# EAGLE library part ATMEGA328P (library IC_Embedded)
8-bit AVR Microcontroller with 32K Bytes In-System Programmable Flash Datasheet <http://ww1.microchip.com/downloads/en/DeviceDoc/Atmel-7810-Automotive-Microcontrollers-ATmega328P_Datasheet.pdf>
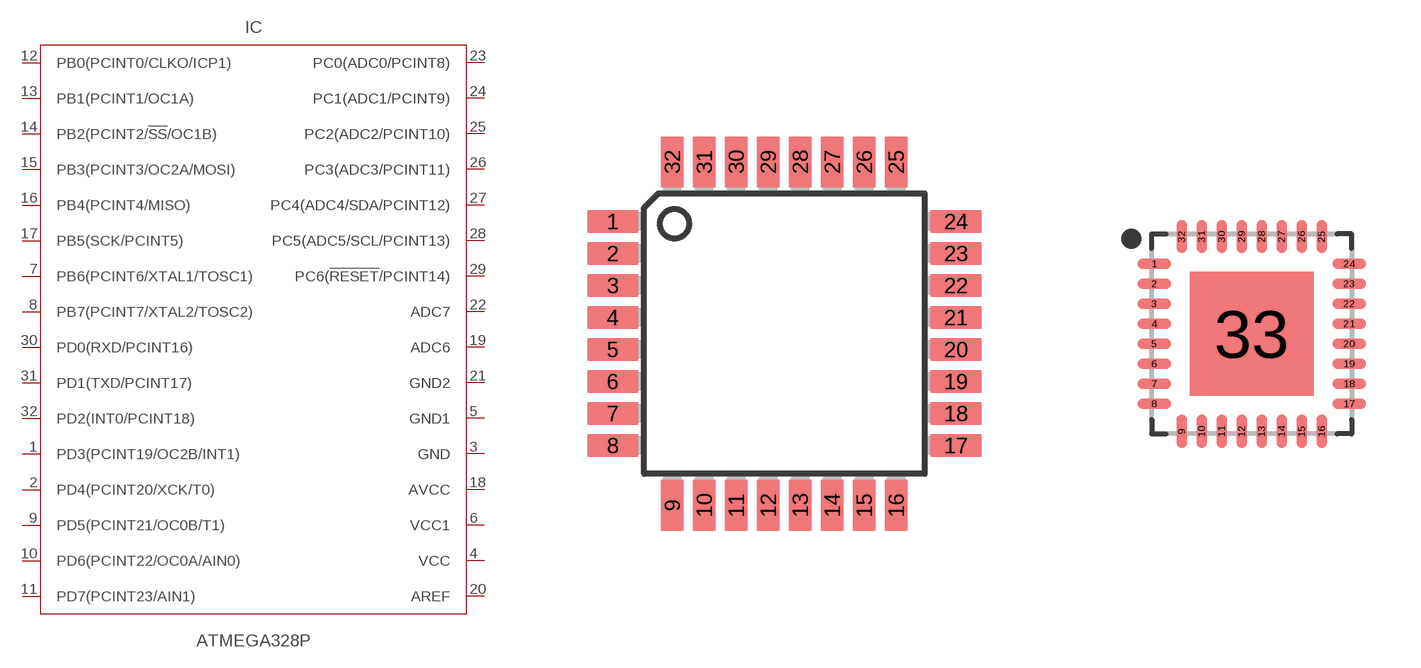
[diagram p11: symbol with the pads of TQFP32-08; footprints TQFP32-08, QFN50P500X500X90-33T310N]

Designator prefix IC

## ATMEGA328P_TQFP (CATEGORY: IC_Embedded; MANUFACTURER: Microchip; MPN: ATmega328P-MMH; OPERATING_TEMP: -40 to 85 °C; PART_STATUS: Active; SUB-CATEGORY: Microcontroller; VALUE: ATMEGA328P)  [TQFP32-08]
1  PD3(PCINT19/OC2B/INT1)
2  PD4(PCINT20/XCK/T0)
3  GND  pas
4  VCC  pwr
5  GND1  pas
6  VCC1  pwr
7  PB6(PCINT6/XTAL1/TOSC1)  in
8  PB7(PCINT7/XTAL2/TOSC2)  in
9  PD5(PCINT21/OC0B/T1)
10  PD6(PCINT22/OC0A/AIN0)
11  PD7(PCINT23/AIN1)
12  PB0(PCINT0/CLKO/ICP1)
13  PB1(PCINT1/OC1A)
14  PB2(PCINT2/!SS!/OC1B)
15  PB3(PCINT3/OC2A/MOSI)
16  PB4(PCINT4/MISO)
17  PB5(SCK/PCINT5)
18  AVCC  pwr
19  ADC6
20  AREF  pwr
21  GND2  pas
22  ADC7
23  PC0(ADC0/PCINT8)
24  PC1(ADC1/PCINT9)
25  PC2(ADC2/PCINT10)
26  PC3(ADC3/PCINT11)
27  PC4(ADC4/SDA/PCINT12)
28  PC5(ADC5/SCL/PCINT13)
29  PC6(!RESET!/PCINT14)
30  PD0(RXD/PCINT16)
31  PD1(TXD/PCINT17)
32  PD2(INT0/PCINT18)

## ATMEGA328P_VQFN (CATEGORY: IC_Embedded; MANUFACTURER: Microchip; MPN: ATmega328P-AU; OPERATING_TEMP: -40 to 85 °C; PART_STATUS: Active; SUB-CATEGORY: Microcontroller; VALUE: ATMEGA328P)  [QFN50P500X500X90-33T310N]
Pads as for TQFP32-08

## Footprint TQFP32-08 (pad centres in mm)
Thin Plasic Quad Flat Package Grid 0.8 mm
smd 1.27 x 0.559: 1 -4.293,2.8; 2 -4.293,2; 3 -4.293,1.2; 4 -4.293,0.4; 5 -4.293,-0.4; 6 -4.293,-1.2; 7 -4.293,-2; 8 -4.293,-2.8; 17 4.293,-2.8; 18 4.293,-2; 19 4.293,-1.2; 20 4.293,-0.4; 21 4.293,0.4; 22 4.293,1.2; 23 4.293,2; 24 4.293,2.8
smd 0.559 x 1.27: 9 -2.8,-4.293; 10 -2,-4.293; 11 -1.2,-4.293; 12 -0.4,-4.293; 13 0.4,-4.293; 14 1.2,-4.293; 15 2,-4.293; 16 2.8,-4.293; 25 2.8,4.293; 26 2,4.293; 27 1.2,4.293; 28 0.4,4.293; 29 -0.4,4.293; 30 -1.2,4.293; 31 -2,4.293; 32 -2.8,4.293

## Footprint QFN50P500X500X90-33T310N (pad centres in mm)
32-QFN, 0.50 mm pitch, 5.00 X 5.00 X 0.90 mm body, 3.10 X 3.10 mm thermal pad 32-pin QFN package with 0.50 mm pitch with body size 5.00 X 5.00 X 0.90 mm and thermal pad size 3.10 X 3.10 mm
smd 0.837 x 0.264: 1 -2.437,1.75; 2 -2.437,1.25; 3 -2.437,0.75; 4 -2.437,0.25; 5 -2.437,-0.25; 6 -2.437,-0.75; 7 -2.437,-1.25; 8 -2.437,-1.75; 17 2.437,-1.75; 18 2.437,-1.25; 19 2.437,-0.75; 20 2.437,-0.25; 21 2.437,0.25; 22 2.437,0.75; 23 2.437,1.25; 24 2.437,1.75
smd 0.264 x 0.837: 9 -1.75,-2.437; 10 -1.25,-2.437; 11 -0.75,-2.437; 12 -0.25,-2.437; 13 0.25,-2.437; 14 0.75,-2.437; 15 1.25,-2.437; 16 1.75,-2.437; 25 1.75,2.437; 26 1.25,2.437; 27 0.75,2.437; 28 0.25,2.437; 29 -0.25,2.437; 30 -0.75,2.437; 31 -1.25,2.437; 32 -1.75,2.437
smd 3.1 x 3.1: 33 0,0